# Altium footprint library DIP762W50P254L483H485Q4.PcbLib: 1 footprints
Each footprint in its own frame and in the unit in brackets; x right, y up, seen from the top. Pads: shape width x height; smd on the part's side, far side on the other; paste and mask are expansions set on the pad; w line width, h text height; cw(c..) or ccw(c..) is an arc to the next point about the centre after c.
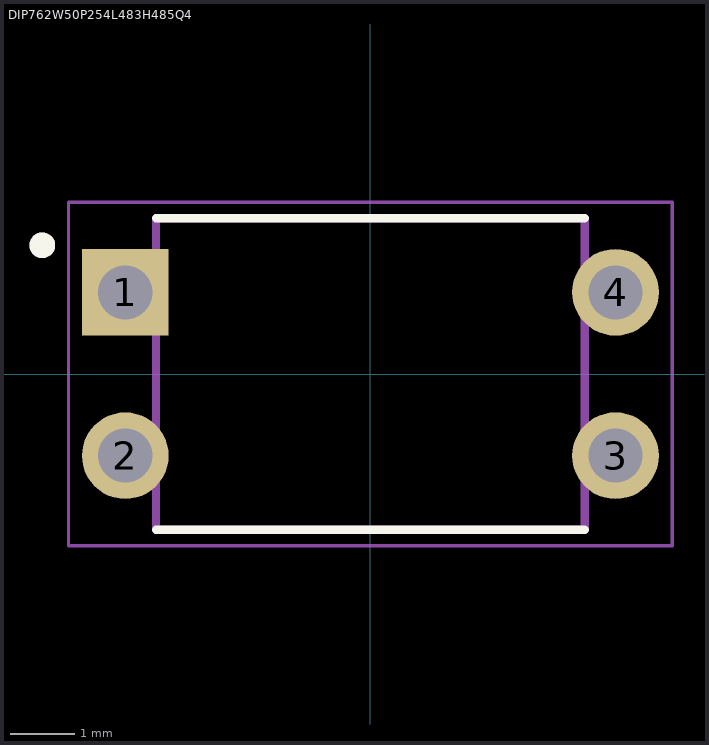
[diagram p0: the footprint, top view; thin cyan lines are the x and y axes]

## DIP762W50P254L483H485Q4 [mm]
pads (4):
  rect 1.348x1.348 hole 0.84: 1(-3.81,1.27)
  round 1.348 hole 0.84: 2(-3.81,-1.27) 3(3.81,-1.27) 4(3.81,1.27)
Top Overlay:
  circle w0.2: c-5.1,2 r0.1
  lines w0.127: -3.33,-2.42 3.33,-2.42 ; -3.33,2.42 3.33,2.42
Mechanical 13:
  circle w0.2: c-5.1,2 r0.1
  lines w0.127: -3.33,-2.42 -3.33,2.42 3.33,2.42 3.33,-2.42 -3.33,-2.42
Mechanical 15:
  lines w0.05: -4.69,-2.67 -4.69,2.67 4.69,2.67 4.69,-2.67 -4.69,-2.67